# EAGLE library part AMC6821-Q1 (library vinorodrigues-custom-eagle)
AMC6821 www.ti.com/product/AMC6821
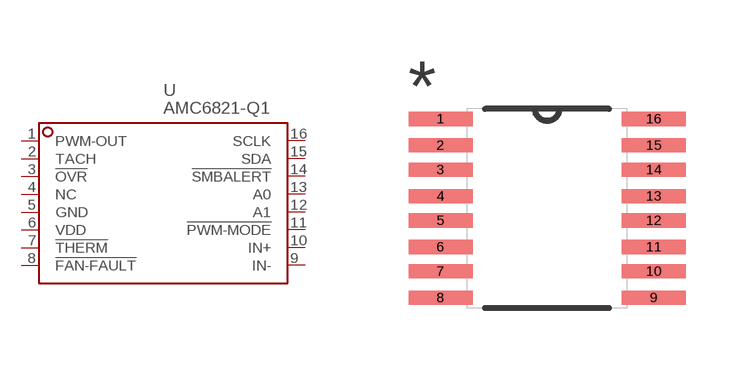
[diagram p0: symbol with the pads of QSOP-16N; footprint QSOP-16N]

Designator prefix -

## AMC6821-Q1QSOP-16N  [QSOP-16N]
1  PWM-OUT  out
2  TACH  in
3  !OVR  out
4  NC  nc
5  GND  pwr
6  VDD  pwr
7  !THERM
8  !FAN-FAULT  out
9  IN-  in
10  IN+  out
11  !PWM-MODE  in
12  A1  in
13  A0  in
14  !SMBALERT  in
15  SDA
16  SCLK  in

## Footprint QSOP-16N (pad centres in mm)
smd 1.6 x 0.356: 1 -2.667,2.235; 2 -2.667,1.575; 3 -2.667,0.965; 4 -2.667,0.305; 5 -2.667,-0.305; 6 -2.667,-0.965; 7 -2.667,-1.575; 8 -2.667,-2.235; 9 2.667,-2.235; 10 2.667,-1.575; 11 2.667,-0.965; 12 2.667,-0.305; 13 2.667,0.305; 14 2.667,0.965; 15 2.667,1.575; 16 2.667,2.235